# Altium schematic symbol library FRP3-102_LAN Switch & Power Distribution Module.SCHLIB: 49 symbols
Pins are listed as number, name and electrical type; pins without a type are passive.

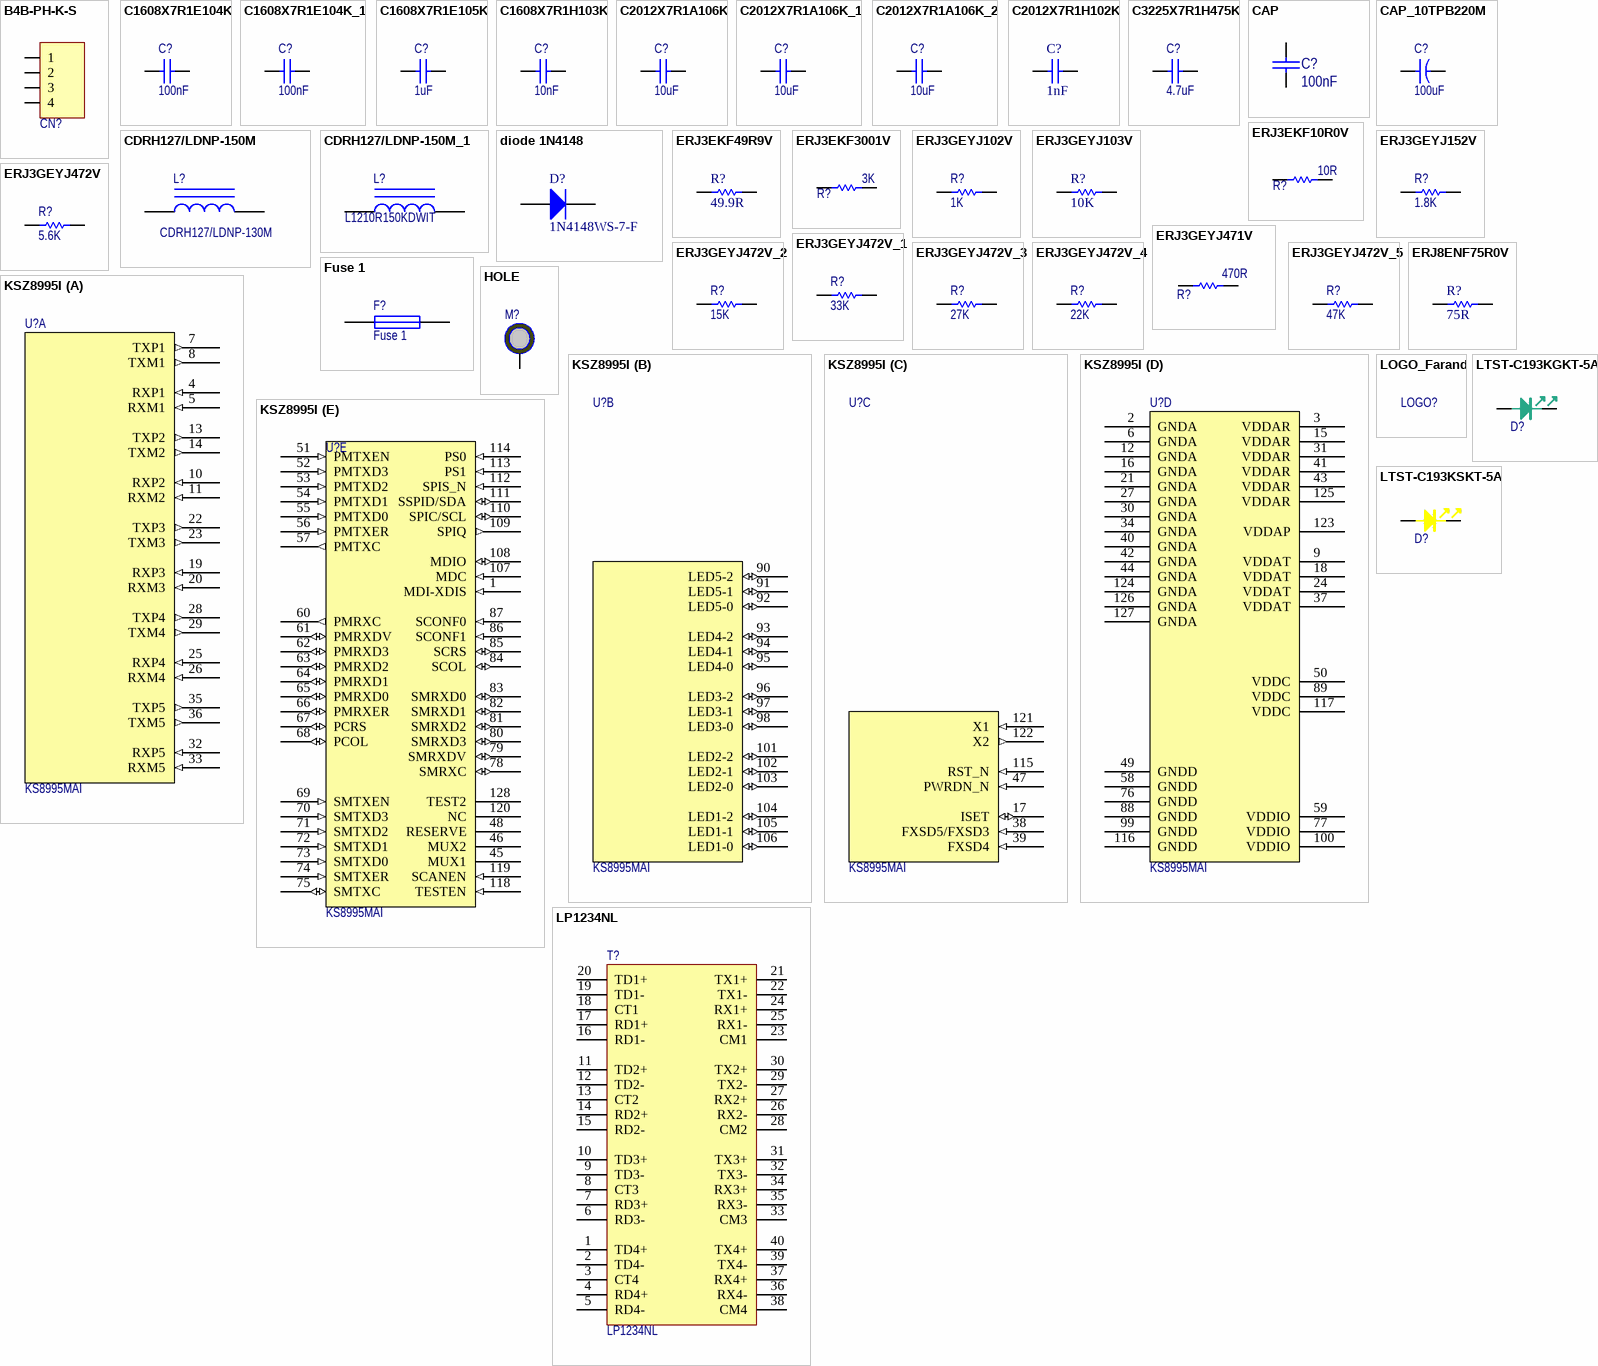
[diagram p0: symbols B4B-PH-K-S to LTST-C193KSKT-5A]

## B4B-PH-K-S
designator CN?  (value not drawn)
4 Position 2mm Pitch/Disconnectable Crimp style Connectors; Manufacture: JST Sales America Inc.
footprint B4B-PH-K-S (Footprint not found)
footprint B4B-PH-K-S
pins: 1, 2, 3, 4

## C1608X7R1E104K
designator C?  value 100nF  (hidden comment: C1608X7R1E104K)
Capacitor,Ceramic,100nF,25V,X7R,10%; Manufacture: TDK
footprint 0805
simulation model CAP (Capacitor)
signal-integrity model Cap
footprint 1206
footprint 0603C
footprint 0603C
footprint 0603C
pins: 1, 2

## C1608X7R1E104K_1
designator C?  value 100nF
Capacitor,Ceramic,100nF,25V,X7R,10%; Manufacture: TDK
footprint 0603C
pins: 1, 2

## C1608X7R1E105K
designator C?  value 1uF  (hidden comment: C1608X7R1E105K)
Capacitor,Ceramic,1uF,25V,X7R,10%; Manufacture: TDK
footprint 0603C
footprint 0603C
pins: 1, 2

## C1608X7R1H103K
designator C?  value 10nF  (hidden comment: C1608X7R1H103K)
Capacitor,Ceramic,10nF,25V,X7R,10%; Manufacture: TDK
footprint 0603C
footprint 0603C
pins: 1, 2

## C2012X7R1A106K
designator C?  value 10uF  (hidden comment: C2012X7R1A106K)
Capacitor,Ceramic,10uF,10V,X7R,10%; Manufacture: TDK
footprint 0805C
footprint 0603C
pins: 1, 2

## C2012X7R1A106K_1
designator C?  value 10uF
Capacitor,Ceramic,10uF,10V,X7R,10%; Manufacture: TDK
footprint 0805C
footprint 0603C
footprint 0603C
pins: 1, 2

## C2012X7R1A106K_2
designator C?, comment value 10uF  (hidden comment: C2012X7R1A106K)
Capacitor,Ceramic,10uF,10V,X7R,10%; Manufacture: TDK
footprint 0805C
pins: 1, 2

## C2012X7R1H102K
designator C?, comment value 1nF  (hidden comment: F102K43Y5RP6UK5R)
Capacitor,Ceramic,1nF, 2 kVDC, Y5R,10%; Manufacture: Vishay
footprint CAP_CER_5mm
pins: 1, 2

## C3225X7R1H475K
designator C?  value 4.7uF  (hidden comment: C3225X7R1H475K)
Capacitor,Ceramic,4.7uF,50V,X7R,10%; Manufacture: TDK
footprint 1210C (Footprint not found)
footprint 1210C
pins: 1, 2

## CAP
designator C?, comment 100nF
Capacitor
footprint 0603C
pins: 1, 2

## CAP_10TPB220M
designator C?, comment 100uF
220uF Capacitor, POSCAP, 10 V, 40 milliohm, 10%; Manufacture: Sanyo
footprint 10TPB220M
footprint 10TPB220M
pins: 1, 2

## CDRH127/LDNP-150M
designator L?, comment CDRH127/LDNP-130M
15uH Inductor, SMT, 5.65 A, 26.4 milliohm; Manufacture: SUMIDA
footprint IND_SMD12X12
footprint IND_SMD7X7
pins: 1, 2

## CDRH127/LDNP-150M_1
designator L?, comment L1210R150KDWIT
Power Inductors - SMD 1210 15uH 10% 730mA; Manufacture: KEMET
footprint 0603C
footprint IND_SMD12X12
footprint IND_SMD12X12
footprint IND_SMD7X7
pins: 1, 2

## diode 1N4148
designator D?, comment 1N4148WS-7-F
FAST SWITCHING DIODE; Manufacture: DIODES INC.
footprint SOD323
pins: 1 A, 2 K

## ERJ3EKF10R0V
designator R?  value 10R  (hidden comment: ERJ3EKF10R0V)
Thick Film Chip Resistors,10R,0603,1%; Manufacture: Panasonic
footprint 0603R
footprint 0603R
footprint 0603R
pins: 1, 2

## ERJ3EKF49R9V
designator R?  value 49.9R  (hidden comment: ERJ3EKF49R9V)
Thick Film Chip Resistors,49.9R,0603,1%; Manufacture: Panasonic
footprint 0603R
footprint 0603R
pins: 1, 2

## ERJ3EKF3001V
designator R?  value 3K  (hidden comment: ERJ3EKF3001V)
Thick Film Chip Resistors,3K,0603,1%; Manufacture: Panasonic
footprint 0603R
footprint 0603R
footprint 0603R
pins: 1, 2

## ERJ3GEYJ102V
designator R?  value 1K  (hidden comment: ERJ3GEYJ102V)
Thick Film Chip Resistors,1K,0603,5%; Manufacture: Panasonic
footprint 0603R
footprint 0603R
footprint 0603C
pins: 1, 2

## ERJ3GEYJ103V
designator R?  value 10K  (hidden comment: ERJ3GEYJ103V)
Thick Film Chip Resistors,10K,0603,5%; Manufacture: Panasonic
footprint 0603R
footprint 0603R
pins: 1, 2

## ERJ3GEYJ152V
designator R?, comment value 1.8K  (hidden comment: ERJ3GEYJ332V)
Thick Film Chip Resistors,3.3K,0603,5%; Manufacture: Panasonic
footprint 0603R
footprint 0603R
footprint 0603R
pins: 1, 2

## ERJ3GEYJ471V
designator R?  value 470R  (hidden comment: ERJ3GEYJ471V)
Thick Film Chip Resistors,470R,0603,5%; Manufacture: Panasonic
footprint 0603R
footprint 0603R
footprint 0603R
pins: 1, 2

## ERJ3GEYJ472V
designator R?, comment value 5.6K  (hidden comment: ERJ3GEYJ562V)
Thick Film Chip Resistors,5.6K,0603,5%; Manufacture: Panasonic
footprint 0603R
footprint 0603R
footprint 0603R
footprint 0603C
footprint 0603R
pins: 1, 2

## ERJ3GEYJ472V_1
designator R?, comment value 33K  (hidden comment: ERJ3GEYJ333V)
Thick Film Chip Resistors,33K,0603,5%; Manufacture: Panasonic
footprint 0603R
footprint 0603R
footprint 0603R
footprint 0603C
footprint 0603R
pins: 1, 2

## ERJ3GEYJ472V_2
designator R?, comment value 15K  (hidden comment: ERJ3GEYJ153V)
Thick Film Chip Resistors,15K,0603,5%; Manufacture: Panasonic
footprint 0603R
footprint 0603R
footprint 0603R
footprint 0603C
footprint 0603R
pins: 1, 2

## ERJ3GEYJ472V_3
designator R?, comment value 27K  (hidden comment: ERJ3GEYJ273V)
Thick Film Chip Resistors,27K,0603,5%; Manufacture: Panasonic
footprint 0603R
footprint 0603R
footprint 0603R
footprint 0603C
footprint 0603R
pins: 1, 2

## ERJ3GEYJ472V_4
designator R?, comment value 22K  (hidden comment: ERJ3GEYJ223V)
Thick Film Chip Resistors,22K,0603,5%; Manufacture: Panasonic
footprint 0603R
footprint 0603R
footprint 0603R
footprint 0603C
footprint 0603R
pins: 1, 2

## ERJ3GEYJ472V_5
designator R?, comment value 47K  (hidden comment: ERJ3GEYJ333V)
Thick Film Chip Resistors,33K,0603,5%; Manufacture: Panasonic
footprint 0603R
footprint 0603R
footprint 0603R
footprint 0603C
footprint 0603R
pins: 1, 2

## ERJ8ENF75R0V
designator R?  value 75R  (hidden comment: ERJ8ENF75R0V)
Thick Film Chip Resistors,75R,1206,1%; Manufacture: Panasonic
footprint 1206R (Footprint not found)
footprint 0603R
pins: 1, 2

## Fuse 1
designator F?
Fuse; Published: 8-Jun-2000; LatestRevisionDate: 17-Jul-2002; LatestRevisionNote: Re-released for DXP Platform.; PackageReference: PIN-W2/E2.8; Publisher: Altium Limited; PackageDescription: Thru-Hole; 2 Leads
footprint 1206
simulation model FUSE (Spice Subcircuit)
footprint 0603C
pins: 1, 2

## HOLE
designator M?, comment SCREW  (value not drawn)
footprint Screw_3mm
footprint HOLE
footprint HOLE
footprint HOLE-3M
pins: 1

## KSZ8995I
designator U?, comment KS8995MAI
Integrated 5-Port 10/100 Managed Switch; Manufacture: Microchip
footprint PQFP_128N
footprint PQFP_128N
footprint 0603C
part A pins: 4 RXP1 (in), 5 RXM1 (in), 7 TXP1 (out), 8 TXM1 (out), 10 RXP2 (in), 11 RXM2 (in), 13 TXP2 (out), 14 TXM2 (out), 19 RXP3 (in), 20 RXM3 (in), 22 TXP3 (out), 23 TXM3 (out), 25 RXP4 (in), 26 RXM4 (in), 28 TXP4 (out), 29 TXM4 (out), 32 RXP5 (in), 33 RXM5 (in), 35 TXP5 (out), 36 TXM5 (out)
part B pins: 90 LED5-2 (io), 91 LED5-1 (io), 92 LED5-0 (io), 93 LED4-2 (io), 94 LED4-1 (io), 95 LED4-0 (io), 96 LED3-2 (io), 97 LED3-1 (io), 98 LED3-0 (io), 101 LED2-2 (io), 102 LED2-1 (io), 103 LED2-0 (io), 104 LED1-2 (io), 105 LED1-1 (io), 106 LED1-0 (io)
part C pins: 17 ISET (io), 38 FXSD5/FXSD3 (in), 39 FXSD4 (in), 47 PWRDN_N (in), 115 RST_N (in), 121 X1 (in), 122 X2 (out)
part D pins: 2 GNDA (power), 3 VDDAR (power), 6 GNDA (power), 9 VDDAT (power), 12 GNDA (power), 15 VDDAR (power), 16 GNDA (power), 18 VDDAT (power), 21 GNDA (power), 24 VDDAT (power), 27 GNDA (power), 30 GNDA (power), 31 VDDAR (power), 34 GNDA (power), 37 VDDAT (power), 40 GNDA (power), 41 VDDAR (power), 42 GNDA (power), 43 VDDAR (power), 44 GNDA (power), 49 GNDD (power), 50 VDDC (power), 58 GNDD (power), 59 VDDIO (power), 76 GNDD (power), 77 VDDIO (power), 88 GNDD (power), 89 VDDC (power), 99 GNDD (power), 100 VDDIO (power), 116 GNDD (power), 117 VDDC (power), 123 VDDAP (power), 124 GNDA (power), 125 VDDAR (power), 126 GNDA (power), 127 GNDA (power)
part E pins: 1 MDI-XDIS (in), 45 MUX1, 46 MUX2, 48 RESERVE, 51 PMTXEN (in), 52 PMTXD3 (in), 53 PMTXD2 (in), 54 PMTXD1 (in), 55 PMTXD0 (in), 56 PMTXER (in), 57 PMTXC (out), 60 PMRXC (out), 61 PMRXDV (io), 62 PMRXD3 (io), 63 PMRXD2 (io), 64 PMRXD1 (io), 65 PMRXD0 (io), 66 PMRXER (io), 67 PCRS (io), 68 PCOL (io), 69 SMTXEN (in), 70 SMTXD3 (in), 71 SMTXD2 (in), 72 SMTXD1 (in), 73 SMTXD0 (in), 74 SMTXER (in), 75 SMTXC (io), 78 SMRXC (io), 79 SMRXDV (io), 80 SMRXD3 (io), 81 SMRXD2 (io), 82 SMRXD1 (io), 83 SMRXD0 (io), 84 SCOL (io), 85 SCRS (io), 86 SCONF1 (in), 87 SCONF0 (in), 107 MDC (in), 108 MDIO (io), 109 SPIQ (out), 110 SPIC/SCL (io), 111 SSPID/SDA (io), 112 SPIS_N (in), 113 PS1 (in), 114 PS0 (in), 118 TESTEN (in), 119 SCANEN (in), 120 NC, 128 TEST2

## LOGO_Farand
designator LOGO?  (value not drawn)
footprint logo
footprint LOGO

## LP1234NL
designator T?
10/100 Base-T Quad Ports Transformer; Manufacture: LINK-PP
footprint LP1234NL
footprint LP1234NL
footprint 0603C
pins: 1 TD4+, 2 TD4-, 3 CT4, 4 RD4+, 5 RD4-, 6 RD3-, 7 RD3+, 8 CT3, 9 TD3-, 10 TD3+, 11 TD2+, 12 TD2-, 13 CT2, 14 RD2+, 15 RD2-, 16 RD1-, 17 RD1+, 18 CT1, 19 TD1-, 20 TD1+, 21 TX1+, 22 TX1-, 23 CM1, 24 RX1+, 25 RX1-, 26 RX2-, 27 RX2+, 28 CM2, 29 TX2-, 30 TX2+, 31 TX3+, 32 TX3-, 33 CM3, 34 RX3+, 35 RX3-, 36 RX4-, 37 RX4+, 38 CM4, 39 TX4-, 40 TX4+

## LTST-C193KGKT-5A
designator D?  (value not drawn)
SMD Green LED,IF = 5 mA , VF = 2 V , VR = 5 V; Manufacture: Lite-On
footprint LED_LTST-C193KGKT-5A (Footprint not found)
footprint 0603C
footprint LED_LTST-C193KGKT-5A (0603 Red Green)
pins: 1, 2
2 alternate drawings of the same symbol

## LTST-C193KSKT-5A
designator D?  (value not drawn)
SMD Red Yellow,IF = 5 mA , VF = 2 V , VR = 5 V; Manufacture: Lite-On
footprint LED_LTST-C193KSKT-5A (Footprint not found)
footprint 0603C
footprint LED_LTST-C193KSKT-5A (0603 Yellow LED)
pins: 1, 2
2 alternate drawings of the same symbol

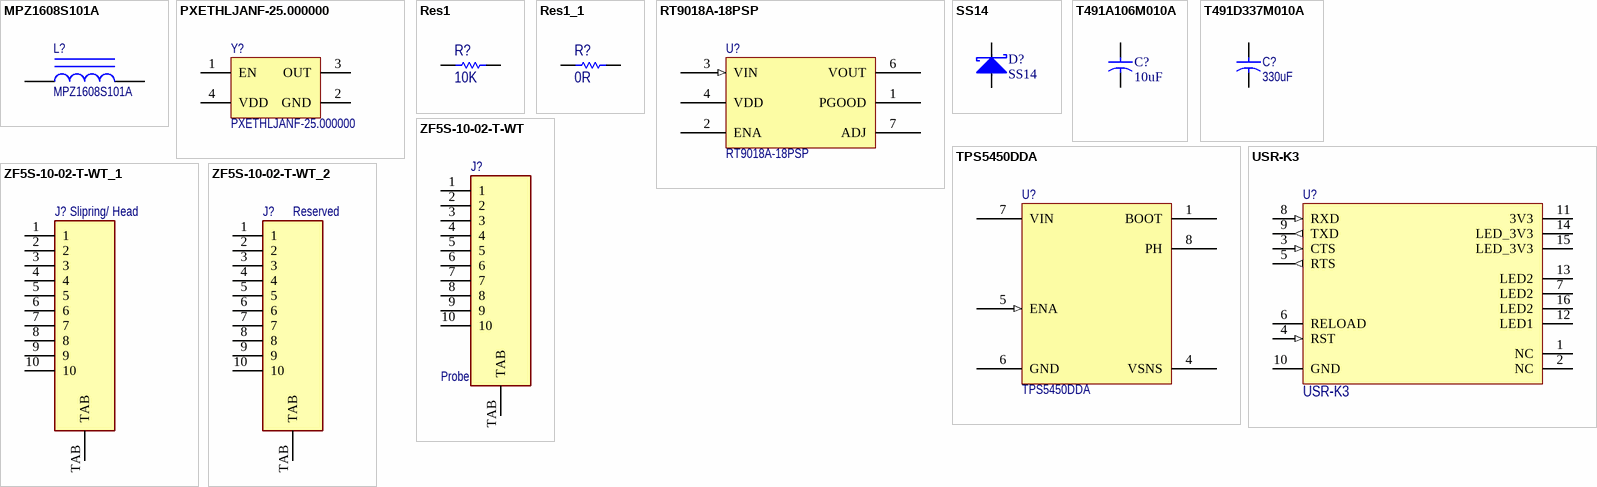
[diagram p1: symbols MPZ1608S101A to ZF5S-10-02-T-WT_2]

## MPZ1608S101A
designator L?
Bead, Ferrite,100R@100Mhz,3A; Manufacture: TDK
footprint 1206
simulation model INDUCTOR (Inductor)
signal-integrity model Inductor Iron
footprint 0603R
footprint 0603-L
footprint 0603C
footprint 0603R
pins: 1, 2

## PXETHLJANF-25.000000
designator Y?
Oscillator 25.000000Mhz, -±100ppm, 3.3V, Temp -40 to +85°C; Manuf_Part_1: NZ2520SB 25MHz END4869B; Manuf_1: NDK; Manuf_Part_2: KC2520B25.0000C10E00; Manuf_2: AVX Corp/Kyocera Corp; ECCN_US/EU: EAR99/NEC; Ref St: 9157031; Provided: ST; Order: *
footprint OSC_3x2.5
footprint OSC_3x2.5
footprint OSC_3x2.5
footprint 0603C
pins: 1 EN, 2 GND, 3 OUT, 4 VDD

## Res1
designator R?, comment 10K
Small Resistor Symbol; Published: 8-Jun-2000; LatestRevisionDate: 17-Jul-2002; LatestRevisionNote: Re-released for DXP Platform.; PackageReference: AXIAL-0.3; Publisher: Altium Limited; PackageDescription: Axial Device, Thru-Hole; 2 Leads; 0.3 in Pin Spacing
footprint AXIAL-0.3 (Axial Device, Thru-Hole; 2 Leads; 0.3 in Pin Spacing)
footprint MultiResistor
footprint 0603 (Chip Inductor, Body 0.6x0.3mm, IPC High Density)
footprint 0805 (Footprint not found)
footprint 1206
footprint 0603R
pins: 1, 2

## Res1_1
designator R?, comment 0R
Small Resistor Symbol; Published: 8-Jun-2000; LatestRevisionDate: 17-Jul-2002; LatestRevisionNote: Re-released for DXP Platform.; PackageReference: AXIAL-0.3; Publisher: Altium Limited; PackageDescription: Axial Device, Thru-Hole; 2 Leads; 0.3 in Pin Spacing
footprint AXIAL-0.3 (Axial Device, Thru-Hole; 2 Leads; 0.3 in Pin Spacing)
footprint MultiResistor
footprint 0603 (Chip Inductor, Body 0.6x0.3mm, IPC High Density)
footprint 0805 (Footprint not found)
footprint 1206
footprint 0603R
pins: 1, 2

## RT9018A-18PSP
designator U?
Maximum 3A, Ultra Low Dropout Regulator; Manufacture: RICHTEK
footprint SOP_8 (Footprint not found)
footprint SOP_8
footprint 0603C
pins: 1 PGOOD (oc), 2 ENA, 3 VIN (in), 4 VDD, 5 NC hidden, 6 VOUT (power), 7 ADJ, 8 GND hidden to GND, 9 GND hidden to GND

## SS14
designator D?
Surface-Mount Schottky Barrier Rectifier 40V 1A; Manufacture: VIshay
footprint SMA
pins: 1 A, 2 K

## T491A106M010A
designator C?  value 10uF  (hidden comment: T491A106M010A)
10uF Capacitor, POSCAP, 10 V, 4 ohm, 20%; Manufacture: KEMET
footprint TANTAL_SIZEA
pins: 1, 2

## T491D337M010A
designator C?  value 330uF  (hidden comment: T491D337M010A)
330uF Capacitor, POSCAP, 10 V, 500 milliohm, 20%; Manufacture: KEMET
footprint 10TPB220M
footprint 10TPB220M
pins: 1, 2

## TPS5450DDA
designator U?
5-A, WIDE INPUT RANGE, STEP-DOWN SWIFT™ CONVERTER; Manufacture: Texas Instruments
footprint SOP_8
footprint SOP_8
footprint 0603C
pins: 1 BOOT, 2 NC hidden, 3 NC hidden, 4 VSNS, 5 ENA (in), 6 GND, 7 VIN (power), 8 PH, 9 PWPAD hidden to GND

## USR-K3
designator U?
footprint USR-K3
footprint USR-K3
footprint USR-K3
pins: 1 NC, 2 NC, 3 CTS (in), 4 RST (in), 5 RTS (out), 6 RELOAD, 7 LED2, 8 RXD (in), 9 TXD (out), 10 GND (power), 11 3V3 (power), 12 LED1, 13 LED2, 14 LED_3V3 (power), 15 LED_3V3 (power), 16 LED2

## ZF5S-10-02-T-WT
designator J?, comment Probe
MP: ZF5S-10-02-T-WT; Price: None; Package: None; Availability: Unavailable; Value: *
footprint FPC10
footprint FPC10
footprint FPC10
footprint FPC10
footprint FPC10
footprint 0603C
footprint FPC10
pins: 1, 2, 3, 4, 5, 6, 7, 8, 9, 10, TAB

## ZF5S-10-02-T-WT_1
designator J?, comment Slipring/ Head
MP: ZF5S-10-02-T-WT; Price: None; Package: None; Availability: Unavailable; Value: *
footprint FPC10
footprint FPC10
footprint FPC10
footprint FPC10
footprint FPC10
footprint 0603C
footprint FPC10
pins: 1, 2, 3, 4, 5, 6, 7, 8, 9, 10, TAB

## ZF5S-10-02-T-WT_2
designator J?, comment Reserved
MP: ZF5S-10-02-T-WT; Price: None; Package: None; Availability: Unavailable; Value: *
footprint FPC10
footprint FPC10
footprint FPC10
footprint FPC10
footprint FPC10
footprint 0603C
footprint FPC10
pins: 1, 2, 3, 4, 5, 6, 7, 8, 9, 10, TAB